# EAGLE library part FPC-59WAY (library pimoroni-fpc)
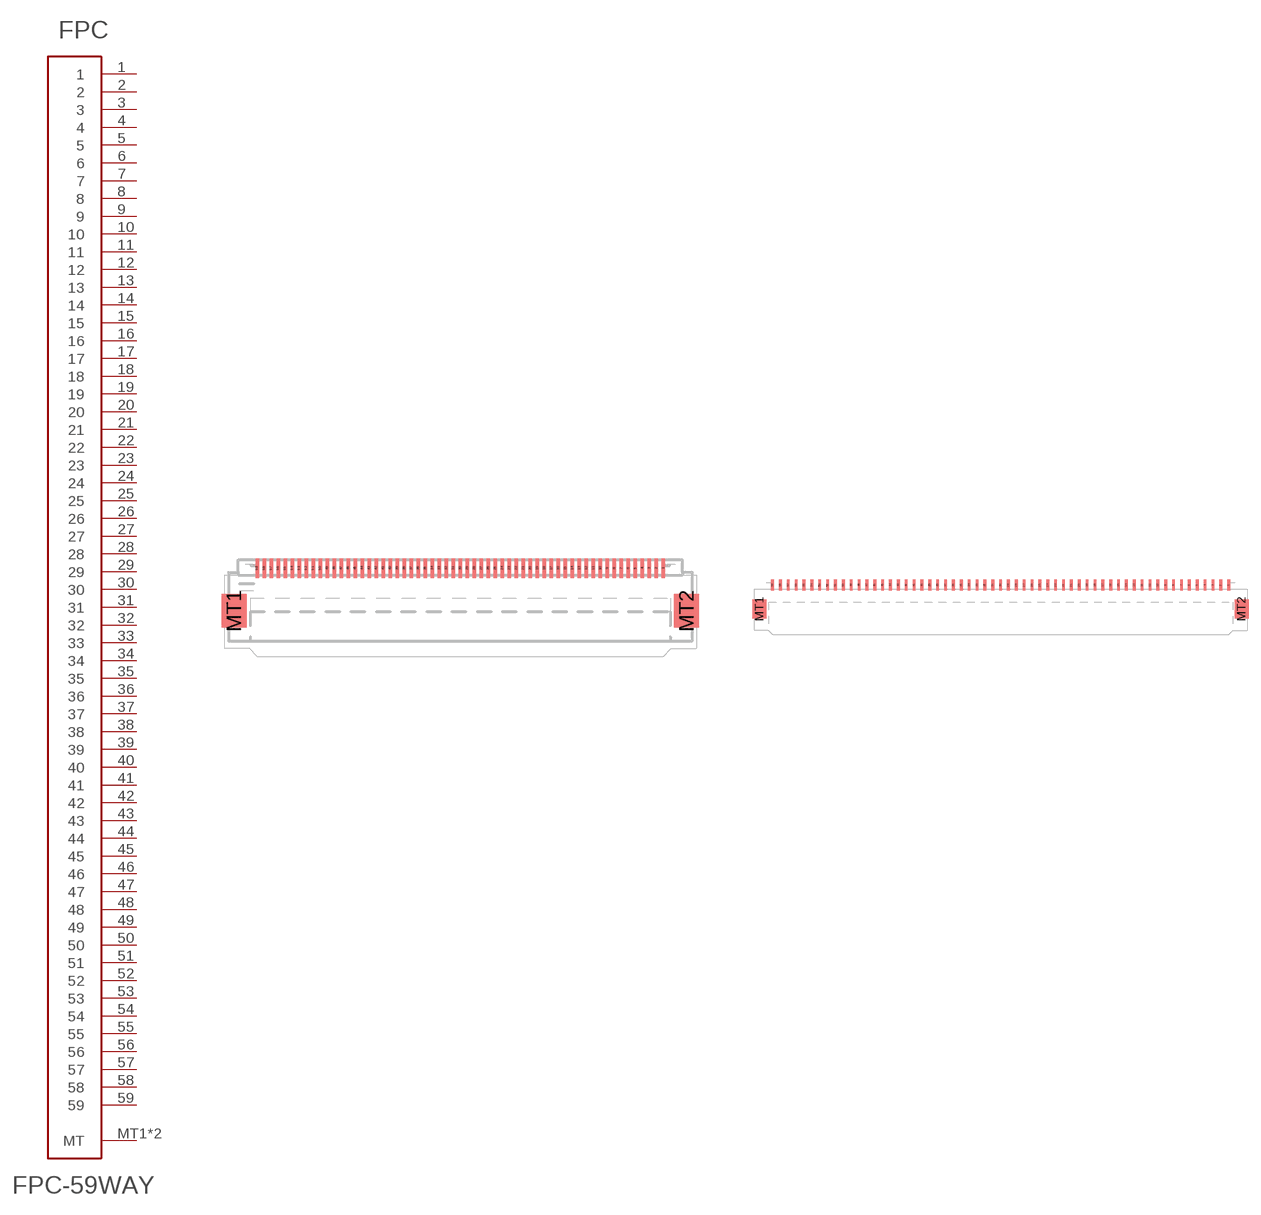
[diagram p54: symbol with the pads of FPC-0.5MM-59WAY; footprints FPC-0.5MM-59WAY, FPC-1.0MM-59WAY]

Designator prefix FPC

## FPC-59WAY0.5  [FPC-0.5MM-59WAY]
1  1
2  2
3  3
4  4
5  5
6  6
7  7
8  8
9  9
10  10
11  11
12  12
13  13
14  14
15  15
16  16
17  17
18  18
19  19
20  20
21  21
22  22
23  23
24  24
25  25
26  26
27  27
28  28
29  29
30  30
31  31
32  32
33  33
34  34
35  35
36  36
37  37
38  38
39  39
40  40
41  41
42  42
43  43
44  44
45  45
46  46
47  47
48  48
49  49
50  50
51  51
52  52
53  53
54  54
55  55
56  56
57  57
58  58
59  59
MT1  MT
MT2  MT

## FPC-59WAY1.0  [FPC-1.0MM-59WAY]
Pads as for FPC-0.5MM-59WAY

## Footprint FPC-0.5MM-59WAY (pad centres in mm)
smd 0.25 x 1.4: 1 14.5,0.7; 2 14,0.7; 3 13.5,0.7; 4 13,0.7; 5 12.5,0.7; 6 12,0.7; 7 11.5,0.7; 8 11,0.7; 9 10.5,0.7; 10 10,0.7; 11 9.5,0.7; 12 9,0.7; 13 8.5,0.7; 14 8,0.7; 15 7.5,0.7; 16 7,0.7; 17 6.5,0.7; 18 6,0.7; 19 5.5,0.7; 20 5,0.7; 21 4.5,0.7; 22 4,0.7; 23 3.5,0.7; 24 3,0.7; 25 2.5,0.7; 26 2,0.7; 27 1.5,0.7; 28 1,0.7; 29 0.5,0.7; 30 0,0.7; 31 -0.5,0.7; 32 -1,0.7; 33 -1.5,0.7; 34 -2,0.7; 35 -2.5,0.7; 36 -3,0.7; 37 -3.5,0.7; 38 -4,0.7; 39 -4.5,0.7; 40 -5,0.7; 41 -5.5,0.7; 42 -6,0.7; 43 -6.5,0.7; 44 -7,0.7; 45 -7.5,0.7; 46 -8,0.7; 47 -8.5,0.7; 48 -9,0.7; 49 -9.5,0.7; 50 -10,0.7; 51 -10.5,0.7; 52 -11,0.7; 53 -11.5,0.7; 54 -12,0.7; 55 -12.5,0.7; 56 -13,0.7; 57 -13.5,0.7; 58 -14,0.7; 59 -14.5,0.7
smd 1.8 x 2.4: MT1 -16.15,-2.35; MT2 16.15,-2.35

## Footprint FPC-1.0MM-59WAY (pad centres in mm)
smd 0.35 x 1.4: 1 29,0.7; 2 28,0.7; 3 27,0.7; 4 26,0.7; 5 25,0.7; 6 24,0.7; 7 23,0.7; 8 22,0.7; 9 21,0.7; 10 20,0.7; 11 19,0.7; 12 18,0.7; 13 17,0.7; 14 16,0.7; 15 15,0.7; 16 14,0.7; 17 13,0.7; 18 12,0.7; 19 11,0.7; 20 10,0.7; 21 9,0.7; 22 8,0.7; 23 7,0.7; 24 6,0.7; 25 5,0.7; 26 4,0.7; 27 3,0.7; 28 2,0.7; 29 1,0.7; 30 0,0.7; 31 -1,0.7; 32 -2,0.7; 33 -3,0.7; 34 -4,0.7; 35 -5,0.7; 36 -6,0.7; 37 -7,0.7; 38 -8,0.7; 39 -9,0.7; 40 -10,0.7; 41 -11,0.7; 42 -12,0.7; 43 -13,0.7; 44 -14,0.7; 45 -15,0.7; 46 -16,0.7; 47 -17,0.7; 48 -18,0.7; 49 -19,0.7; 50 -20,0.7; 51 -21,0.7; 52 -22,0.7; 53 -23,0.7; 54 -24,0.7; 55 -25,0.7; 56 -26,0.7; 57 -27,0.7; 58 -28,0.7; 59 -29,0.7
smd 1.8 x 2.4: MT1 -30.65,-2.35; MT2 30.65,-2.35